# Altium footprint library XT60-30_Fuse_Board_Footprints.PcbLib: 3 footprints
Each footprint in its own frame and in the unit in brackets; x right, y up, seen from the top. Pads: shape width x height; smd on the part's side, far side on the other; paste and mask are expansions set on the pad; w line width, h text height; cw(c..) or ccw(c..) is an arc to the next point about the centre after c.
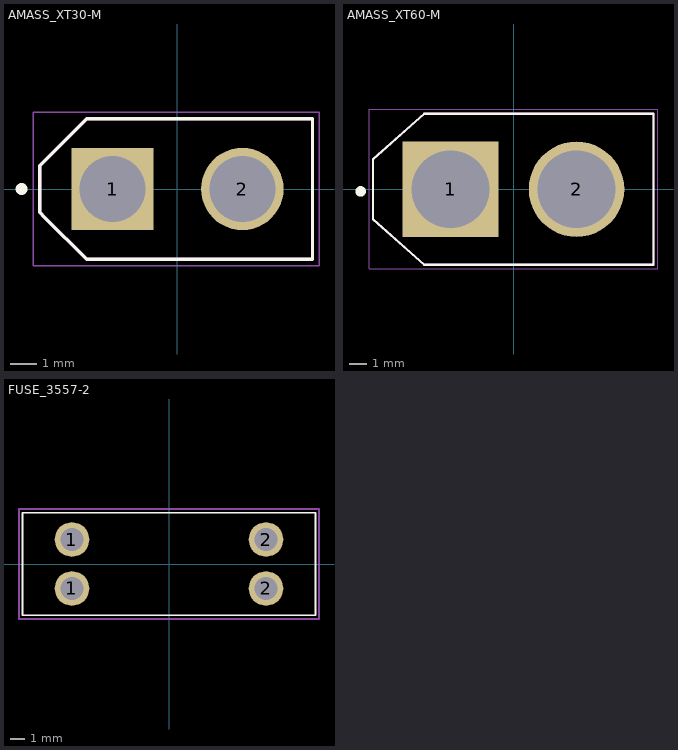
[diagram p0: the footprints below, top view; thin cyan lines are the x and y axes]

## AMASS_XT30-M [mm]
pads (2):
  rect 3.175x3.175 hole 2.54: 1(-2.5,0)
  round 3.175 hole 2.54: 2(2.5,0)
Top Overlay:
  circle w0.254: c-6,0 r0.1
  lines w0.127: -5.3,-0.9 -5.3,0.9 -3.5,2.7 5.2,2.7 5.2,-2.7 -3.5,-2.7 -5.1,-1.1 -5.3,-0.9
Mechanical 13:
  lines w0.127: -5.3,-0.9 -5.3,0.9 -3.5,2.7 5.2,2.7 5.2,-2.7 -3.5,-2.7 -5.3,-0.9
Mechanical 15:
  lines w0.05: -5.55,-2.95 -5.55,2.95 5.45,2.95 5.45,-2.95 -5.55,-2.95
3D body: height 9.4, standoff 0, extent -5.08,-2.54 5.08,2.54

## AMASS_XT60-M [mil]
pads (2):
  rect 215x215 hole 175: 1(-141.73,0)
  round 215 hole 175: 2(141.73,0)
Top Overlay:
  circle w11.81: c-344,-5 r5.91
  lines w5: -316,-68.2 -200.79,-170 315,-170 315,170 -200.72,170 -316,68.2 -316,-68.2
Mechanical 13:
  lines w5: -316,-68.2 -316,68.2 -200.75,170 315,170 315,-170 -200.75,-170 -316,-68.2
Mechanical 15:
  lines w1.97: -325,-179 -325,180 325,180 325,-179 -325,-179
3D body "XT60-M--3DModel-STEP-56544.STEP": height 629.92, standoff -177.17, extent -305.12,-159.45 305.12,159.45

## FUSE_3557-2 [mm]
pads (4):
  round 2.4 hole 1.6: 1(-6.735,-1.7) 1(-6.735,1.7) 2(6.735,-1.7) 2(6.735,1.7)
Top Overlay:
  lines w0.127: -10.16,-3.556 -10.16,3.556 10.16,3.556 10.16,-3.556 -10.16,-3.556
Mechanical 15:
  lines w0.127: -10.414,-3.81 10.414,-3.81 10.414,3.81 -10.414,3.81 -10.414,-3.81
3D body: height 7.4, standoff 0, extent -9.906,-3.378 9.906,3.378